# EAGLE library part LT3476 (library 1dah)
4-ch 1.5 amp switching LED power regulator.
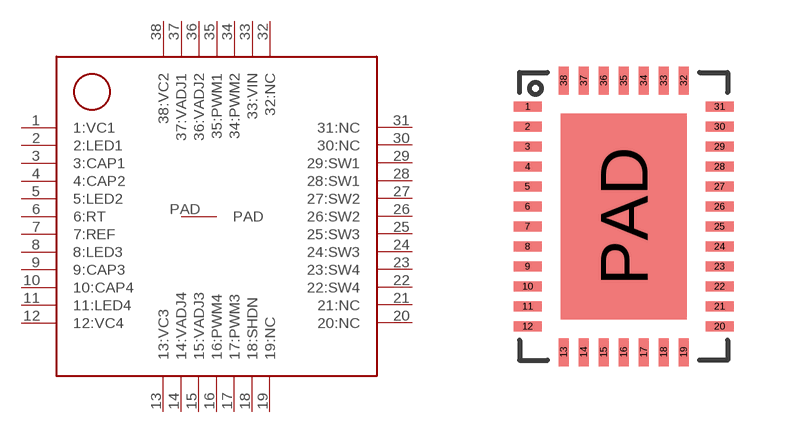
[diagram p39: symbol with the pads of QFN-38; footprint QFN-38]

Designator prefix -

## LT3476  [QFN-38]
1  1:VC1
2  2:LED1
3  3:CAP1
4  4:CAP2
5  5:LED2
6  6:RT
7  7:REF
8  8:LED3
9  9:CAP3
10  10:CAP4
11  11:LED4
12  12:VC4
13  13:VC3
14  14:VADJ4
15  15:VADJ3
16  16:PWM4
17  17:PWM3
18  18:SHDN
19  19:NC
20  20:NC
21  21:NC
22  22:SW4
23  23:SW4
24  24:SW3
25  25:SW3
26  26:SW2
27  27:SW2
28  28:SW1
29  29:SW1
30  30:NC
31  31:NC
32  32:NC
33  33:VIN
34  34:PWM2
35  35:PWM1
36  36:VADJ2
37  37:VADJ1
38  38:VC2
PAD  PAD

## Footprint QFN-38 (pad centres in mm)
smd 0.7 x 0.25: 1 -2.4,2.75; 2 -2.4,2.25; 3 -2.4,1.75; 4 -2.4,1.25; 5 -2.4,0.75; 6 -2.4,0.25; 7 -2.4,-0.25; 8 -2.4,-0.75; 9 -2.4,-1.25; 10 -2.4,-1.75; 11 -2.4,-2.25; 12 -2.4,-2.75; 20 2.4,-2.75; 21 2.4,-2.25; 22 2.4,-1.75; 23 2.4,-1.25; 24 2.4,-0.75; 25 2.4,-0.25; 26 2.4,0.25; 27 2.4,0.75; 28 2.4,1.25; 29 2.4,1.75; 30 2.4,2.25; 31 2.4,2.75
smd 0.25 x 0.7: 13 -1.5,-3.4; 14 -1,-3.4; 15 -0.5,-3.4; 16 0,-3.4; 17 0.5,-3.4; 18 1,-3.4; 19 1.5,-3.4; 32 1.5,3.4; 33 1,3.4; 34 0.5,3.4; 35 0,3.4; 36 -0.5,3.4; 37 -1,3.4; 38 -1.5,3.4
smd 3.15 x 5.15: PAD 0,0